# Altium schematic symbol library Allegro A6214.SchLib: 1 symbol
Pins are listed as number, name and electrical type; pins without a type are passive.

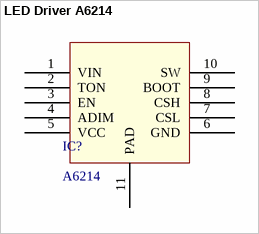
[diagram p0: symbol LED Driver A6214]

## LED Driver A6214
designator IC?, comment A6214
A6214 LED Driver; Date Created: 05/26/2016; Digikey Part No.: 620-1776-1-ND
footprint A6214 LED Driver
pins: 1 VIN (power), 2 TON, 3 EN, 4 ADIM, 5 VCC, 6 GND, 7 CSL, 8 CSH, 9 BOOT, 10 SW, 11 PAD